# Altium schematic symbol library Schlib1.SchLib: 3 symbols
Pins are listed as number, name and electrical type; pins without a type are passive.

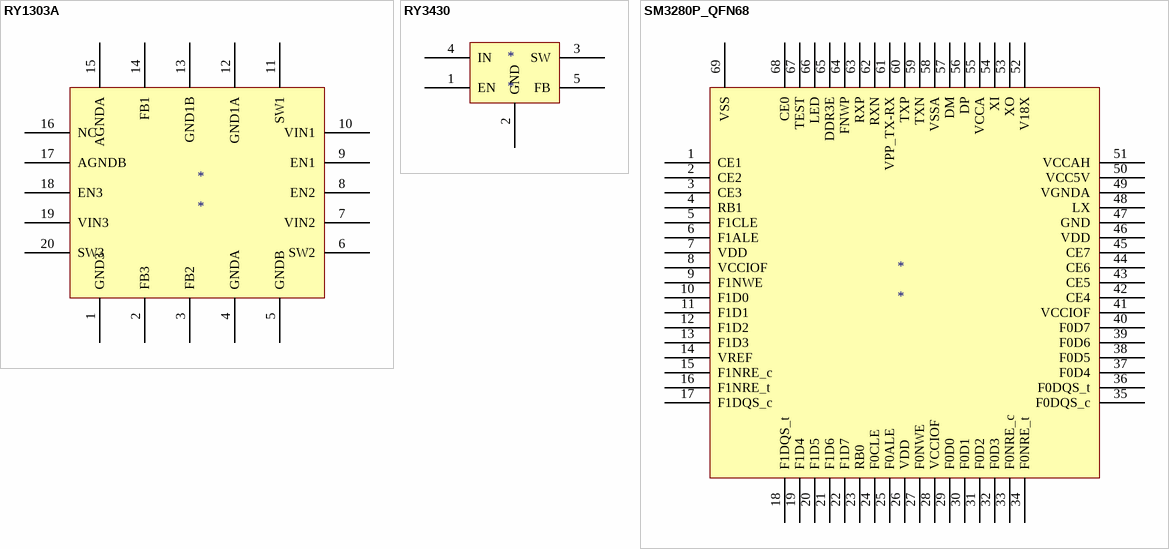
[diagram p0: symbols RY1303A to SM3280P_QFN68]

## RY1303A
designator *
pins: 1 GND3, 2 FB3, 3 FB2, 4 GNDA, 5 GNDB, 6 SW2, 7 VIN2, 8 EN2, 9 EN1, 10 VIN1, 11 SW1, 12 GND1A, 13 GND1B, 14 FB1, 15 AGNDA, 16 NC, 17 AGNDB, 18 EN3, 19 VIN3, 20 SW3

## RY3430
designator *
pins: 1 EN, 2 GND, 3 SW, 4 IN, 5 FB

## SM3280P_QFN68
designator *
pins: 1 CE1, 2 CE2, 3 CE3, 4 RB1, 5 F1CLE, 6 F1ALE, 7 VDD, 8 VCCIOF, 9 F1NWE, 10 F1D0, 11 F1D1, 12 F1D2, 13 F1D3, 14 VREF, 15 F1NRE_c, 16 F1NRE_t, 17 F1DQS_c, 18 F1DQS_t, 19 F1D4, 20 F1D5, 21 F1D6, 22 F1D7, 23 RB0, 24 F0CLE, 25 F0ALE, 26 VDD, 27 F0NWE, 28 VCCIOF, 29 F0D0, 30 F0D1, 31 F0D2, 32 F0D3, 33 F0NRE_c, 34 F0NRE_t, 35 F0DQS_c, 36 F0DQS_t, 37 F0D4, 38 F0D5, 39 F0D6, 40 F0D7, 41 VCCIOF, 42 CE4, 43 CE5, 44 CE6, 45 CE7, 46 VDD, 47 GND, 48 LX, 49 VGNDA, 50 VCC5V, 51 VCCAH, 52 V18X, 53 XO, 54 XI, 55 VCCA, 56 DP, 57 DM, 58 VSSA, 59 TXN, 60 TXP, 61 VPP_TX-RX, 62 RXN, 63 RXP, 64 FNWP, 65 DDR3E, 66 LED, 67 TEST, 68 CE0, 69 VSS